# EAGLE library part TPH4R003NL,L1Q (library TPH4R003NL_L1Q)
Trans MOSFET N-CH Si 30V 68A 8-Pin SOP Advance T/R Source: Datasheet <https://toshiba.semicon-storage.com/info/docget.jsp?did=14427&prodName=TPH4R003NL>
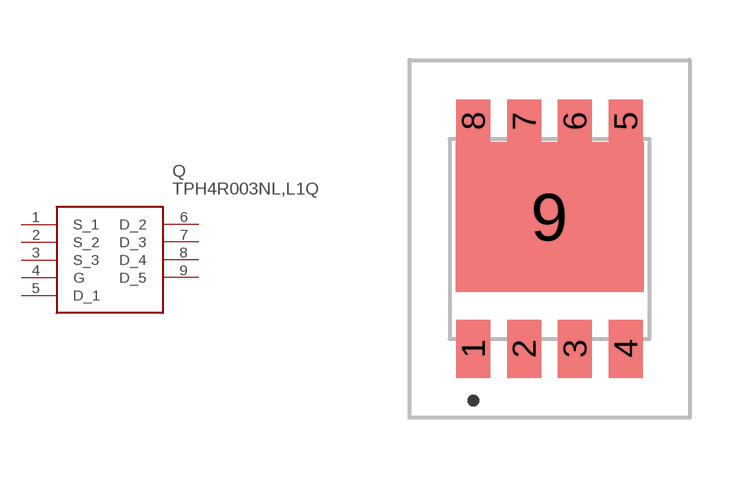
[diagram p0: symbol with the pads of TPH4R003NLL1Q; footprint TPH4R003NLL1Q]

Designator prefix Q

## TPH4R003NL,L1Q (Description: Trans MOSFET N-CH Si 30V 68A 8-Pin SOP Advance T/R; Height: 1mm; Manufacturer_Name: Toshiba; Manufacturer_Part_Number: TPH4R003NL,L1Q; Mouser_Part_Number: 757-TPH4R003NLL1Q; Mouser_Price-Stock: https://www.mouser.co.uk/ProductDetail/Toshiba/TPH4R003NLL1Q?qs=lqaQjFBflhnR92QwUsl5tg%3D%3D)  [TPH4R003NLL1Q]
1  S_1
2  S_2
3  S_3
4  G
5  D_1
6  D_2
7  D_3
8  D_4
9  D_5

## Footprint TPH4R003NLL1Q (pad centres in mm)
SOP Advance_2
smd 0.85 x 1.45: 1 -1.905,-2.75; 2 -0.635,-2.75; 3 0.635,-2.75; 4 1.905,-2.75
smd 0.85 x 1.05: 5 1.905,2.95; 6 0.635,2.95; 7 -0.635,2.95; 8 -1.905,2.95
smd 4.7 x 3.75: 9 0,0.55